# Altium schematic symbol library Chip resistors.SchLib: 85 symbols
Pins are listed as number, name and electrical type; pins without a type are passive.

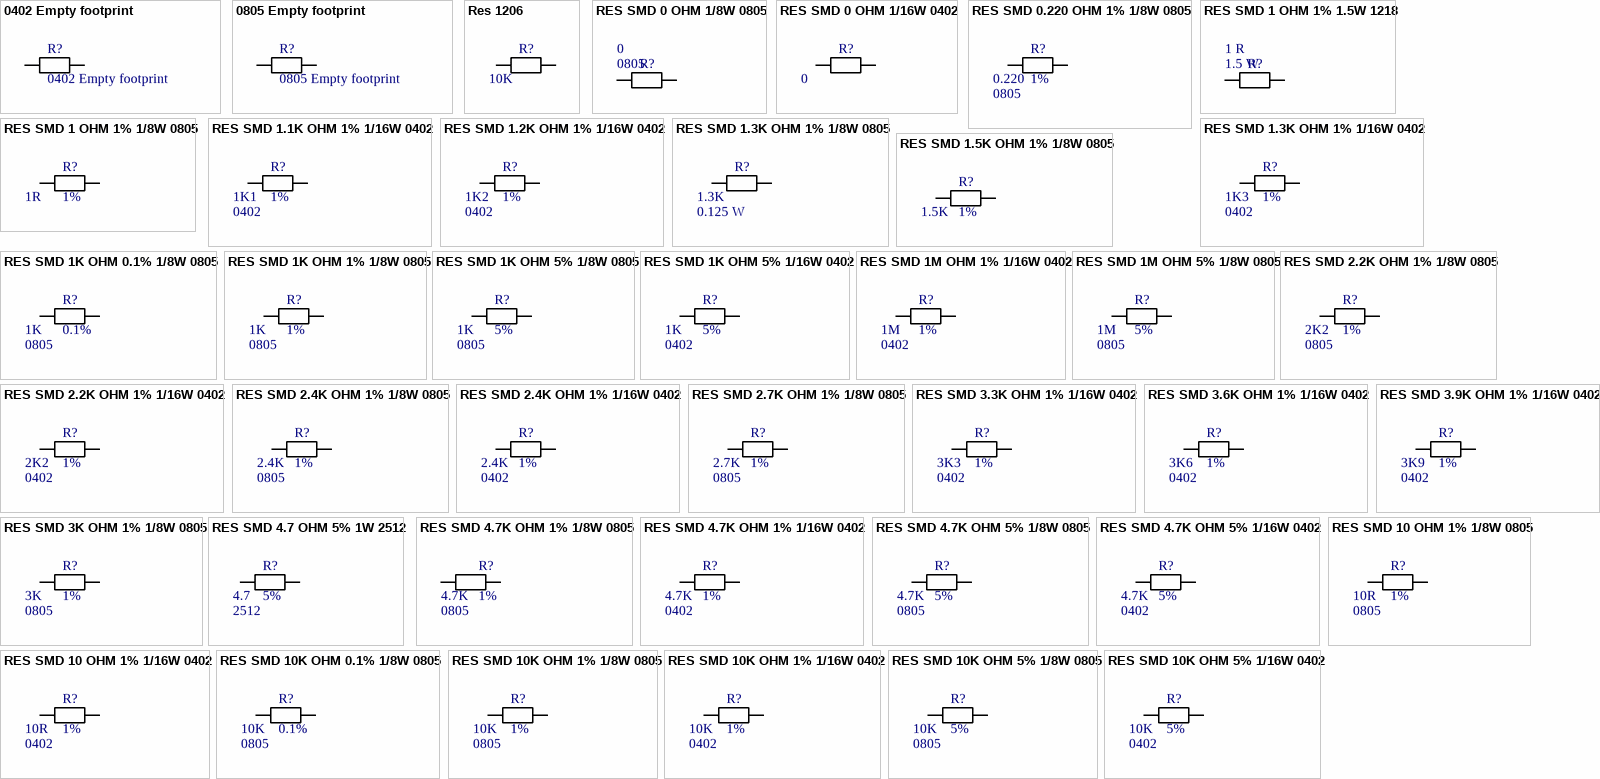
[diagram p0: symbols 0402 Empty footprint to RES SMD 10K OHM 5% 1/16W 0402]

## 0402 Empty footprint
designator R?
Package: 0402
footprint LC-0402_R
footprint LC-0402
pins: 1, 2

## 0805 Empty footprint
designator R?
Package: 0805
footprint LC-0805_R
footprint LC-0805
pins: 1, 2

## Res 1206
designator R?  value 10K  (hidden comment: Res 1206)
Chip resistor SMT 1206; Power dissipation max: 0.25 W; Package: 1206
footprint LC-1206_R
pins: 1, 2

## RES SMD 0 OHM 1/8W 0805
designator R?  value 0  Package: 0805  (hidden comment: RES SMD 0 OHM 1/8W 0805)
Power dissipation max: 0.125 W
footprint LC-0805_R
footprint LC-0805
pins: 1, 2

## RES SMD 0 OHM 1/16W 0402
designator R?  value 0  (hidden comment: RES SMD 0 OHM 1/16W 0402)
Power dissipation max: 0.0625 W; Package: 0402
footprint LC-0402_R
footprint LC-0402
pins: 1, 2

## RES SMD 0.220 OHM 1% 1/8W 0805
designator R?  value 0.220  Package: 0805  Accuracy: 1%  (hidden comment: RES SMD 0.220 OHM 1% 1/8W 0805)
Power dissipation max: 0.125 W
footprint LC-0805_R
footprint LC-0805
pins: 1, 2

## RES SMD 1 OHM 1% 1.5W 1218
designator R?  value 1 R  Power dissipation max: 1.5 W  (hidden comment: RES SMD 1 OHM 1% 1.5W 1218)
Package: 1218; Accuracy: 1%
footprint LC-1218_R
pins: 1, 2

## RES SMD 1 OHM 1% 1/8W 0805
designator R?  value 1R  Accuracy: 1%  (hidden comment: RES SMD 1 OHM 1% 1/8W 0805)
Power dissipation max: 0.125 W; Package: 0805
footprint LC-0805_R
footprint LC-0805
pins: 1, 2

## RES SMD 1.1K OHM 1% 1/16W 0402
designator R?  value 1K1  Package: 0402  Accuracy: 1%  (hidden comment: RES SMD 1.1K OHM 1% 1/16W 0402)
Power dissipation max: 0.0625 W
footprint LC-0402_R
footprint LC-0402
pins: 1, 2

## RES SMD 1.2K OHM 1% 1/16W 0402
designator R?  value 1K2  Package: 0402  Accuracy: 1%  (hidden comment: RES SMD 1.2K OHM 1% 1/16W 0402)
Power dissipation max: 0.0625 W
footprint LC-0402_R
footprint LC-0402
pins: 1, 2

## RES SMD 1.3K OHM 1% 1/8W 0805
designator R?  value 1.3K  Power dissipation max: 0.125 W  (hidden comment: RES SMD 1.3K OHM 1% 1/8W 0805)
Package: 0805; Accuracy: 1%
footprint LC-0805_R
footprint LC-0805
pins: 1, 2

## RES SMD 1.3K OHM 1% 1/16W 0402
designator R?  value 1K3  Package: 0402  Accuracy: 1%  (hidden comment: RES SMD 1.3K OHM 1% 1/16W 0402)
Power dissipation max: 0.0625 W
footprint LC-0402_R
footprint LC-0402
pins: 1, 2

## RES SMD 1.5K OHM 1% 1/8W 0805
designator R?  value 1.5K  Accuracy: 1%  (hidden comment: RES SMD 1.5K OHM 1% 1/8W 0805)
Power dissipation max: 0.125 W; Supplier 1: Digi-Key; Supplier 2: Digi-Key; Supplier 3: Digi-Key; Supplier Part Number 1: 311-1.50KCRDKR-ND; Supplier Part Number 2: 1276-5281-1-ND; Supplier Part Number 3: RMCF0805FT1K50CT-ND; Package: 0805
footprint LC-0805_R
footprint LC-0805
pins: 1, 2

## RES SMD 1K OHM 0.1% 1/8W 0805
designator R?  value 1K  Package: 0805  Accuracy: 0.1%  (hidden comment: RES SMD 1K OHM 0.1% 1/8W 0805)
Power dissipation max: 0.125 W
footprint LC-0805_R
footprint LC-0805
pins: 1, 2

## RES SMD 1K OHM 1% 1/8W 0805
designator R?  value 1K  Package: 0805  Accuracy: 1%  (hidden comment: RES SMD 1K OHM 1% 1/8W 0805)
Power dissipation max: 0.125 W
footprint LC-0805_R
footprint LC-0805
pins: 1, 2

## RES SMD 1K OHM 5% 1/8W 0805
designator R?  value 1K  Package: 0805  Accuracy: 5%  (hidden comment: RES SMD 1K OHM 5% 1/8W 0805)
Power dissipation max: 0.125 W
footprint LC-0805_R
footprint LC-0805
pins: 1, 2

## RES SMD 1K OHM 5% 1/16W 0402
designator R?  value 1K  Package: 0402  Accuracy: 5%  (hidden comment: RES SMD 1K OHM 5% 1/16W 0402)
Power dissipation max: 0.0625 W
footprint LC-0402_R
footprint LC-0402
pins: 1, 2

## RES SMD 1M OHM 1% 1/16W 0402
designator R?  value 1M  Package: 0402  Accuracy: 1%  (hidden comment: RES SMD 1M OHM 1% 1/16W 0402)
Power dissipation max: 0.0625 W
footprint LC-0402_R
footprint LC-0402
pins: 1, 2

## RES SMD 1M OHM 5% 1/8W 0805
designator R?  value 1M  Package: 0805  Accuracy: 5%  (hidden comment: RES SMD 1M OHM 5% 1/8W 0805)
Power dissipation max: 0.125 W; Supplier 1: Digi-Key; Supplier 2: Digi-Key; Supplier 3: Digi-Key; Supplier Part Number 1: 311-1.0MARDKR-ND; Supplier Part Number 2: RMCF0805JT1M00CT-ND; Supplier Part Number 3: P1.0MACT-ND
footprint LC-0805_R
footprint LC-0805
pins: 1, 2

## RES SMD 2.2K OHM 1% 1/8W 0805
designator R?  value 2K2  Package: 0805  Accuracy: 1%  (hidden comment: RES SMD 2.2K OHM 1% 1/8W 0805)
Power dissipation max: 0.125 W; Supplier 1: Digi-Key; Supplier 2: Digi-Key; Supplier 3: Digi-Key; Supplier Part Number 1: 311-2.20KCRCT-ND; Supplier Part Number 2: RMCF0805FT2K20CT-ND; Supplier Part Number 3: 1276-5290-1-ND
footprint LC-0805_R
footprint LC-0805
pins: 1, 2

## RES SMD 2.2K OHM 1% 1/16W 0402
designator R?  value 2K2  Package: 0402  Accuracy: 1%  (hidden comment: RES SMD 2.2K OHM 1% 1/16W 0402)
Power dissipation max: 0.0625 W
footprint LC-0402_R
footprint LC-0402
pins: 1, 2

## RES SMD 2.4K OHM 1% 1/8W 0805
designator R?  value 2.4K  Package: 0805  Accuracy: 1%  (hidden comment: RES SMD 2.4K OHM 1% 1/8W 0805)
Power dissipation max: 0.125 W
footprint LC-0805_R
footprint LC-0805
pins: 1, 2

## RES SMD 2.4K OHM 1% 1/16W 0402
designator R?  value 2.4K  Package: 0402  Accuracy: 1%  (hidden comment: RES SMD 2.4K OHM 1% 1/16W 0402)
Power dissipation max: 0.0625 W
footprint LC-0402_R
footprint LC-0402
pins: 1, 2

## RES SMD 2.7K OHM 1% 1/8W 0805
designator R?  value 2.7K  Package: 0805  Accuracy: 1%  (hidden comment: RES SMD 2.7K OHM 1% 1/8W 0805)
Power dissipation max: 0.125 W
footprint LC-0805_R
footprint LC-0805
pins: 1, 2

## RES SMD 3.3K OHM 1% 1/16W 0402
designator R?  value 3K3  Package: 0402  Accuracy: 1%  (hidden comment: RES SMD 3.3K OHM 1% 1/16W 0402)
Power dissipation max: 0.0625 W
footprint LC-0402_R
footprint LC-0402
pins: 1, 2

## RES SMD 3.6K OHM 1% 1/16W 0402
designator R?  value 3K6  Package: 0402  Accuracy: 1%  (hidden comment: RES SMD 3.6K OHM 1% 1/16W 0402)
Power dissipation max: 0.0625 W
footprint LC-0402_R
footprint LC-0402
pins: 1, 2

## RES SMD 3.9K OHM 1% 1/16W 0402
designator R?  value 3K9  Package: 0402  Accuracy: 1%  (hidden comment: RES SMD 3.9K OHM 1% 1/16W 0402)
Power dissipation max: 0.0625 W
footprint LC-0402_R
footprint LC-0402
pins: 1, 2

## RES SMD 3K OHM 1% 1/8W 0805
designator R?  value 3K  Package: 0805  Accuracy: 1%  (hidden comment: RES SMD 3K OHM 1% 1/8W 0805)
Power dissipation max: 0.125 W; Supplier 1: Digi-Key; Supplier 2: Digi-Key; Supplier Part Number 1: 311-3.00KCRCT-ND; Supplier Part Number 2: P3.0KCCT-ND
footprint LC-0805_R
footprint LC-0805
pins: 1, 2

## RES SMD 4.7 OHM 5% 1W 2512
designator R?  value 4.7  Package: 2512  Accuracy: 5%  (hidden comment: RES SMD 4.7 OHM 5% 1W 2512)
Power dissipation max: 1 W; Supplier 1: Digi-Key; Supplier 2: Digi-Key; Supplier 3: Digi-Key; Supplier Part Number 1: A102532DKR-ND; Supplier Part Number 2: RMCF2512JT4R70DKR-ND; Supplier Part Number 3: YAG3406DKR-ND
footprint LC-2512_R
pins: 1, 2

## RES SMD 4.7K OHM 1% 1/8W 0805
designator R?  value 4.7K  Package: 0805  Accuracy: 1%  (hidden comment: RES SMD 4.7K OHM 1% 1/8W 0805)
Power dissipation max: 0.125 W
footprint LC-0805_R
footprint LC-0805
pins: 1, 2

## RES SMD 4.7K OHM 1% 1/16W 0402
designator R?  value 4.7K  Package: 0402  Accuracy: 1%  (hidden comment: RES SMD 4.7K OHM 1% 1/16W 0402)
Power dissipation max: 0.0625 W
footprint LC-0402_R
footprint LC-0402
pins: 1, 2

## RES SMD 4.7K OHM 5% 1/8W 0805
designator R?  value 4.7K  Package: 0805  Accuracy: 5%  (hidden comment: RES SMD 4.7K OHM 5% 1/8W 0805)
Power dissipation max: 0.125 W; Supplier 1: Digi-Key; Supplier 2: Digi-Key; Supplier 3: Digi-Key; Supplier Part Number 1: RMCF0805JT4K70CT-ND; Supplier Part Number 2: 1276-5544-1-ND; Supplier Part Number 3: 311-4.7KARCT-ND
footprint LC-0805_R
footprint LC-0805
pins: 1, 2

## RES SMD 4.7K OHM 5% 1/16W 0402
designator R?  value 4.7K  Package: 0402  Accuracy: 5%  (hidden comment: RES SMD 4.7K OHM 5% 1/16W 0402)
Power dissipation max: 0.0625 W
footprint LC-0402_R
footprint LC-0402
pins: 1, 2

## RES SMD 10 OHM 1% 1/8W 0805
designator R?  value 10R  Package: 0805  Accuracy: 1%  (hidden comment: RES SMD 10 OHM 1% 1/8W 0805)
Power dissipation max: 0.125 W
footprint LC-0805_R
footprint LC-0805
pins: 1, 2

## RES SMD 10 OHM 1% 1/16W 0402
designator R?  value 10R  Package: 0402  Accuracy: 1%  (hidden comment: RES SMD 10 OHM 1% 1/16W 0402)
Power dissipation max: 0.0625 W
footprint LC-0402_R
footprint LC-0402
pins: 1, 2

## RES SMD 10K OHM 0.1% 1/8W 0805
designator R?  value 10K  Package: 0805  Accuracy: 0.1%  (hidden comment: RES SMD 10K OHM 0.1% 1/8W 0805)
Power dissipation max: 0.125 W
footprint LC-0805_R
footprint LC-0805
pins: 1, 2

## RES SMD 10K OHM 1% 1/8W 0805
designator R?  value 10K  Package: 0805  Accuracy: 1%  (hidden comment: RES SMD 10K OHM 1% 1/8W 0805)
Power dissipation max: 0.125 W
footprint LC-0805_R
footprint LC-0805
pins: 1, 2

## RES SMD 10K OHM 1% 1/16W 0402
designator R?  value 10K  Package: 0402  Accuracy: 1%  (hidden comment: RES SMD 10K OHM 1% 1/16W 0402)
Power dissipation max: 0.0625 W
footprint LC-0402_R
footprint LC-0402
pins: 1, 2

## RES SMD 10K OHM 5% 1/8W 0805
designator R?  value 10K  Package: 0805  Accuracy: 5%  (hidden comment: RES SMD 10K OHM 5% 1/8W 0805)
Power dissipation max: 0.125 W; Supplier 1: Digi-Key; Supplier 2: Digi-Key; Supplier 3: Digi-Key; Supplier Part Number 1: 311-10KARDKR-ND; Supplier Part Number 2: RMCF0805JT10K0DKR-ND; Supplier Part Number 3: 1276-5552-6-ND
footprint LC-0805_R
footprint LC-0805
pins: 1, 2

## RES SMD 10K OHM 5% 1/16W 0402
designator R?  value 10K  Package: 0402  Accuracy: 5%  (hidden comment: RES SMD 10K OHM 5% 1/16W 0402)
Power dissipation max: 0.0625 W
footprint LC-0402_R
footprint LC-0402
pins: 1, 2

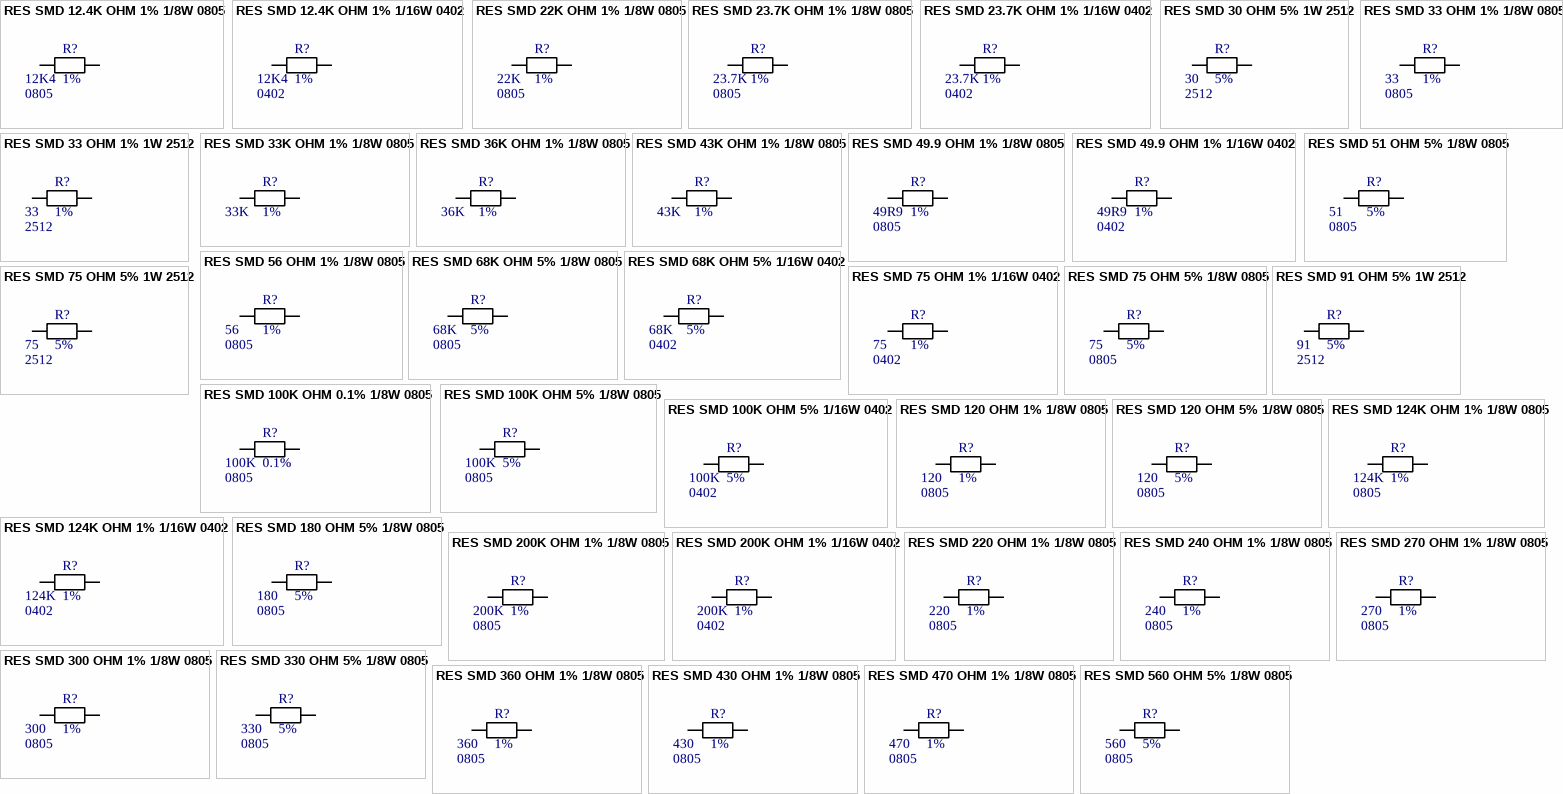
[diagram p1: symbols RES SMD 12.4K OHM 1% 1/8W 0805 to RES SMD 560 OHM 5% 1/8W 0805]

## RES SMD 12.4K OHM 1% 1/8W 0805
designator R?  value 12K4  Package: 0805  Accuracy: 1%  (hidden comment: RES SMD 12.4K OHM 1% 1/8W 0805)
Power dissipation max: 0.125 W
footprint LC-0805_R
footprint LC-0805
pins: 1, 2

## RES SMD 12.4K OHM 1% 1/16W 0402
designator R?  value 12K4  Package: 0402  Accuracy: 1%  (hidden comment: RES SMD 12.4K OHM 1% 1/16W 0402)
Power dissipation max: 0.0625 W
footprint LC-0402_R
footprint LC-0402
pins: 1, 2

## RES SMD 22K OHM 1% 1/8W 0805
designator R?  value 22K  Package: 0805  Accuracy: 1%  (hidden comment: RES SMD 22K OHM 1% 1/8W 0805)
Power dissipation max: 0.125 W
footprint LC-0805_R
footprint LC-0805
pins: 1, 2

## RES SMD 23.7K OHM 1% 1/8W 0805
designator R?  value 23.7K  Package: 0805  Accuracy: 1%  (hidden comment: RES SMD 23.7K OHM 1% 1/8W 0805)
Power dissipation max: 0.125 W
footprint LC-0805_R
footprint LC-0805
pins: 1, 2

## RES SMD 23.7K OHM 1% 1/16W 0402
designator R?  value 23.7K  Package: 0402  Accuracy: 1%  (hidden comment: RES SMD 23.7K OHM 1% 1/16W 0402)
Power dissipation max: 0.0625 W
footprint LC-0402_R
footprint LC-0402
pins: 1, 2

## RES SMD 30 OHM 5% 1W 2512
designator R?  value 30  Package: 2512  Accuracy: 5%  (hidden comment: RES SMD 30 OHM 5% 1W 2512)
Power dissipation max: 1 W
footprint LC-2512_R
pins: 1, 2

## RES SMD 33 OHM 1% 1/8W 0805
designator R?  value 33  Package: 0805  Accuracy: 1%  (hidden comment: RES SMD 33 OHM 1% 1/8W 0805)
Power dissipation max: 0.125 W
footprint LC-0805_R
footprint LC-0805
pins: 1, 2

## RES SMD 33 OHM 1% 1W 2512
designator R?  value 33  Package: 2512  Accuracy: 1%  (hidden comment: RES SMD 33 OHM 1% 1W 2512)
Power dissipation max: 1 W
footprint LC-2512_R
pins: 1, 2

## RES SMD 33K OHM 1% 1/8W 0805
designator R?  value 33K  Accuracy: 1%  (hidden comment: RES SMD 33K OHM 1% 1/8W 0805)
Power dissipation max: 0.125 W; Package: 0805
footprint LC-0805_R
footprint LC-0805
pins: 1, 2

## RES SMD 36K OHM 1% 1/8W 0805
designator R?  value 36K  Accuracy: 1%  (hidden comment: RES SMD 36K OHM 1% 1/8W 0805)
Power dissipation max: 0.125 W; Package: 0805
footprint LC-0805_R
footprint LC-0805
pins: 1, 2

## RES SMD 43K OHM 1% 1/8W 0805
designator R?  value 43K  Accuracy: 1%  (hidden comment: RES SMD 43K OHM 1% 1/8W 0805)
Power dissipation max: 0.125 W; Package: 0805
footprint LC-0805_R
footprint LC-0805
pins: 1, 2

## RES SMD 49.9 OHM 1% 1/8W 0805
designator R?  value 49R9  Package: 0805  Accuracy: 1%  (hidden comment: RES SMD 49.9 OHM 1% 1/8W 0805)
Power dissipation max: 0.125 W
footprint LC-0805_R
footprint LC-0805
pins: 1, 2

## RES SMD 49.9 OHM 1% 1/16W 0402
designator R?  value 49R9  Package: 0402  Accuracy: 1%  (hidden comment: RES SMD 49.9 OHM 1% 1/16W 0402)
Power dissipation max: 0.0625 W
footprint LC-0402_R
footprint LC-0402
pins: 1, 2

## RES SMD 51 OHM 5% 1/8W 0805
designator R?  value 51  Package: 0805  Accuracy: 5%  (hidden comment: RES SMD 51 OHM 5% 1/8W 0805)
Power dissipation max: 0.125 W
footprint LC-0805_R
footprint LC-0805
pins: 1, 2

## RES SMD 56 OHM 1% 1/8W 0805
designator R?  value 56  Package: 0805  Accuracy: 1%  (hidden comment: RES SMD 56 OHM 1% 1/8W 0805)
Power dissipation max: 0.125 W
footprint LC-0805_R
footprint LC-0805
pins: 1, 2

## RES SMD 68K OHM 5% 1/8W 0805
designator R?  value 68K  Package: 0805  Accuracy: 5%  (hidden comment: RES SMD 68K OHM 5% 1/8W 0805)
Power dissipation max: 0.125 W
footprint LC-0805_R
footprint LC-0805
pins: 1, 2

## RES SMD 68K OHM 5% 1/16W 0402
designator R?  value 68K  Package: 0402  Accuracy: 5%  (hidden comment: RES SMD 68K OHM 5% 1/16W 0402)
Power dissipation max: 0.0625 W
footprint LC-0402_R
footprint LC-0402
pins: 1, 2

## RES SMD 75 OHM 1% 1/16W 0402
designator R?  value 75  Package: 0402  Accuracy: 1%  (hidden comment: RES SMD 75 OHM 1% 1/16W 0402)
Power dissipation max: 0.0625 W
footprint LC-0402_R
footprint LC-0402
pins: 1, 2

## RES SMD 75 OHM 5% 1/8W 0805
designator R?  value 75  Package: 0805  Accuracy: 5%  (hidden comment: RES SMD 75 OHM 5% 1/8W 0805)
Power dissipation max: 0.125 W
footprint LC-0805_R
footprint LC-0805
pins: 1, 2

## RES SMD 75 OHM 5% 1W 2512
designator R?  value 75  Package: 2512  Accuracy: 5%  (hidden comment: RES SMD 75 OHM 5% 1W 2512)
Power dissipation max: 1 W
footprint LC-2512_R
pins: 1, 2

## RES SMD 91 OHM 5% 1W 2512
designator R?  value 91  Package: 2512  Accuracy: 5%  (hidden comment: RES SMD 91 OHM 5% 1W 2512)
Power dissipation max: 1 W; Supplier 1: Digi-Key; Supplier 2: Digi-Key; Supplier 3: Digi-Key; Supplier Part Number 1: RMCF2512JT91R0DKR-ND; Supplier Part Number 2: 541-91XDKR-ND; Supplier Part Number 3: RHM91BCDKR-ND
footprint LC-2512_R
pins: 1, 2

## RES SMD 100K OHM 0.1% 1/8W 0805
designator R?  value 100K  Package: 0805  Accuracy: 0.1%  (hidden comment: RES SMD 100K OHM 0.1% 1/8W 0805)
Power dissipation max: 0.125 W
footprint LC-0805_R
footprint LC-0805
pins: 1, 2

## RES SMD 100K OHM 5% 1/8W 0805
designator R?  value 100K  Package: 0805  Accuracy: 5%  (hidden comment: RES SMD 100K OHM 5% 1/8W 0805)
Power dissipation max: 0.125 W
footprint LC-0805_R
footprint LC-0805
pins: 1, 2

## RES SMD 100K OHM 5% 1/16W 0402
designator R?  value 100K  Package: 0402  Accuracy: 5%  (hidden comment: RES SMD 100K OHM 5% 1/16W 0402)
Power dissipation max: 0.0625 W
footprint LC-0402_R
footprint LC-0402
pins: 1, 2

## RES SMD 120 OHM 1% 1/8W 0805
designator R?  value 120  Package: 0805  Accuracy: 1%  (hidden comment: RES SMD 120 OHM 1% 1/8W 0805)
Power dissipation max: 0.125 W
footprint LC-0805_R
footprint LC-0805
pins: 1, 2

## RES SMD 120 OHM 5% 1/8W 0805
designator R?  value 120  Package: 0805  Accuracy: 5%  (hidden comment: RES SMD 120 OHM 5% 1/8W 0805)
Power dissipation max: 0.125 W
footprint LC-0805_R
footprint LC-0805
pins: 1, 2

## RES SMD 124K OHM 1% 1/8W 0805
designator R?  value 124K  Package: 0805  Accuracy: 1%  (hidden comment: RES SMD 124K OHM 1% 1/8W 0805)
Power dissipation max: 0.125 W
footprint LC-0805_R
footprint LC-0805
pins: 1, 2

## RES SMD 124K OHM 1% 1/16W 0402
designator R?  value 124K  Package: 0402  Accuracy: 1%  (hidden comment: RES SMD 124K OHM 1% 1/16W 0402)
Power dissipation max: 0.0625W
footprint LC-0402_R
footprint LC-0402
pins: 1, 2

## RES SMD 180 OHM 5% 1/8W 0805
designator R?  value 180  Package: 0805  Accuracy: 5%  (hidden comment: RES SMD 180 OHM 5% 1/8W 0805)
Power dissipation max: 0.125 W
footprint LC-0805_R
footprint LC-0805
pins: 1, 2

## RES SMD 200K OHM 1% 1/8W 0805
designator R?  value 200K  Package: 0805  Accuracy: 1%  (hidden comment: RES SMD 200K OHM 1% 1/8W 0805)
Power dissipation max: 0.125 W
footprint LC-0805_R
footprint LC-0805
pins: 1, 2

## RES SMD 200K OHM 1% 1/16W 0402
designator R?  value 200K  Package: 0402  Accuracy: 1%  (hidden comment: RES SMD 200K OHM 1% 1/16W 0402)
Power dissipation max: 0.0625W
footprint LC-0402_R
footprint LC-0402
pins: 1, 2

## RES SMD 220 OHM 1% 1/8W 0805
designator R?  value 220  Package: 0805  Accuracy: 1%  (hidden comment: RES SMD 220 OHM 1% 1/8W 0805)
Power dissipation max: 0.125 W
footprint LC-0805_R
footprint LC-0805
pins: 1, 2

## RES SMD 240 OHM 1% 1/8W 0805
designator R?  value 240  Package: 0805  Accuracy: 1%  (hidden comment: RES SMD 240 OHM 1% 1/8W 0805)
Power dissipation max: 0.125 W; Supplier 1: Digi-Key; Supplier 2: Digi-Key; Supplier 3: Digi-Key; Supplier Part Number 1: 1276-5239-6-ND; Supplier Part Number 2: 311-240CRDKR-ND; Supplier Part Number 3: RMCF0805FT240RDKR-ND
footprint LC-0805_R
footprint LC-0805
pins: 1, 2

## RES SMD 270 OHM 1% 1/8W 0805
designator R?  value 270  Package: 0805  Accuracy: 1%  (hidden comment: RES SMD 270 OHM 1% 1/8W 0805)
Power dissipation max: 0.125 W
footprint LC-0805_R
footprint LC-0805
pins: 1, 2

## RES SMD 300 OHM 1% 1/8W 0805
designator R?  value 300  Package: 0805  Accuracy: 1%  (hidden comment: RES SMD 300 OHM 1% 1/8W 0805)
Power dissipation max: 0.125 W; Supplier 1: Digi-Key; Supplier 2: Digi-Key; Supplier 3: Digi-Key; Supplier 4: Digi-Key; Supplier Part Number 1: 311-300CRDKR-ND; Supplier Part Number 2: P300CDKR-ND; Supplier Part Number 3: 1276-5244-6-ND; Supplier Part Number 4: 541-300CCT-ND
footprint LC-0805_R
footprint LC-0805
pins: 1, 2

## RES SMD 330 OHM 5% 1/8W 0805
designator R?  value 330  Package: 0805  Accuracy: 5%  (hidden comment: RES SMD 330 OHM 5% 1/8W 0805)
Power dissipation max: 0.125 W; Supplier 1: Digi-Key; Supplier 2: Digi-Key; Supplier 3: Digi-Key; Supplier Part Number 1: 1276-5519-6-ND; Supplier Part Number 2: RMCF0805JT330RCT-ND; Supplier Part Number 3: 311-330ARCT-ND
footprint LC-0805_R
footprint LC-0805
pins: 1, 2

## RES SMD 360 OHM 1% 1/8W 0805
designator R?  value 360  Package: 0805  Accuracy: 1%  (hidden comment: RES SMD 360 OHM 1% 1/8W 0805)
Power dissipation max: 0.125 W
footprint LC-0805_R
footprint LC-0805
pins: 1, 2

## RES SMD 430 OHM 1% 1/8W 0805
designator R?  value 430  Package: 0805  Accuracy: 1%  (hidden comment: RES SMD 430 OHM 1% 1/8W 0805)
Power dissipation max: 0.125 W
footprint LC-0805_R
footprint LC-0805
pins: 1, 2

## RES SMD 470 OHM 1% 1/8W 0805
designator R?  value 470  Package: 0805  Accuracy: 1%  (hidden comment: RES SMD 470 OHM 1% 1/8W 0805)
Power dissipation max: 0.125 W
footprint LC-0805_R
footprint LC-0805
pins: 1, 2

## RES SMD 560 OHM 5% 1/8W 0805
designator R?  value 560  Package: 0805  Accuracy: 5%  (hidden comment: RES SMD 560 OHM 5% 1/8W 0805)
Power dissipation max: 0.125 W; Supplier 1: Digi-Key; Supplier 2: Digi-Key; Supplier 3: Digi-Key; Supplier 4: Digi-Key; Supplier Part Number 1: RMCF0805JT560RCT-ND; Supplier Part Number 2: 1276-5525-1-ND; Supplier Part Number 3: 311-560ARCT-ND; Supplier Part Number 4: 541-560ACT-ND
footprint LC-0805_R
footprint LC-0805
pins: 1, 2

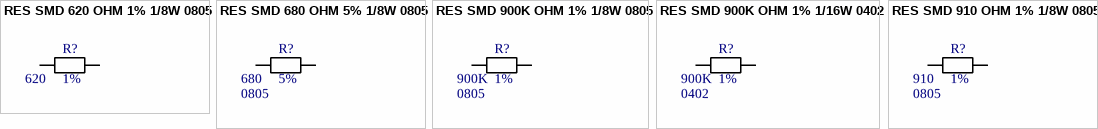
[diagram p2: symbols RES SMD 620 OHM 1% 1/8W 0805 to RES SMD 910 OHM 1% 1/8W 0805]

## RES SMD 620 OHM 1% 1/8W 0805
designator R?  value 620  Accuracy: 1%  (hidden comment: RES SMD 620 OHM 1% 1/8W 0805)
Power dissipation max: 0.125 W; Package: 0805
footprint LC-0805_R
footprint LC-0805
pins: 1, 2

## RES SMD 680 OHM 5% 1/8W 0805
designator R?  value 680  Package: 0805  Accuracy: 5%  (hidden comment: RES SMD 680 OHM 5% 1/8W 0805)
Power dissipation max: 0.125 W
footprint LC-0805_R
footprint LC-0805
pins: 1, 2

## RES SMD 900K OHM 1% 1/8W 0805
designator R?  value 900K  Package: 0805  Accuracy: 1%  (hidden comment: RES SMD 900K OHM 1% 1/8W 0805)
Power dissipation max: 0.125 W
footprint LC-0805_R
footprint LC-0805
pins: 1, 2

## RES SMD 900K OHM 1% 1/16W 0402
designator R?  value 900K  Package: 0402  Accuracy: 1%  (hidden comment: RES SMD 900K OHM 1% 1/16W 0402)
Power dissipation max: 0.0625 W
footprint LC-0402_R
footprint LC-0402
pins: 1, 2

## RES SMD 910 OHM 1% 1/8W 0805
designator R?  value 910  Package: 0805  Accuracy: 1%  (hidden comment: RES SMD 910 OHM 1% 1/8W 0805)
Power dissipation max: 0.125 W; Supplier 1: Digi-Key; Supplier 2: Digi-Key; Supplier 3: Digi-Key; Supplier Part Number 1: 1276-5271-1-ND; Supplier Part Number 2: P910CCT-ND; Supplier Part Number 3: 311-910CRCT-ND
footprint LC-0805_R
footprint LC-0805
pins: 1, 2